# EAGLE library part EXP-AB (library T1200)
Toshiba Proprietary Slot Toshiba Expansion Bus Connector (A side/B side) 60 pins / 1.27 mm pin spacing
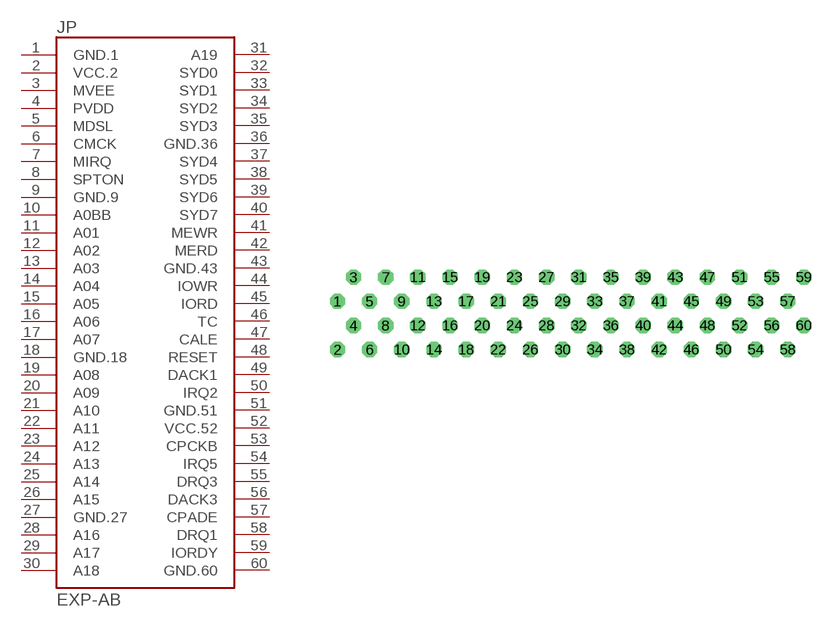
[diagram p2: symbol with the pads of CONN60; footprint CONN60]

Designator prefix JP

## EXP-AB  [CONN60]
1  GND.1
2  VCC.2
3  MVEE
4  PVDD
5  MDSL
6  CMCK
7  MIRQ
8  SPTON
9  GND.9
10  A0BB
11  A01
12  A02
13  A03
14  A04
15  A05
16  A06
17  A07
18  GND.18
19  A08
20  A09
21  A10
22  A11
23  A12
24  A13
25  A14
26  A15
27  GND.27
28  A16
29  A17
30  A18
31  A19
32  SYD0
33  SYD1
34  SYD2
35  SYD3
36  GND.36
37  SYD4
38  SYD5
39  SYD6
40  SYD7
41  MEWR
42  MERD
43  GND.43
44  IOWR
45  IORD
46  TC
47  CALE
48  RESET
49  DACK1
50  IRQ2
51  GND.51
52  VCC.52
53  CPCKB
54  IRQ5
55  DRQ3
56  DACK3
57  CPADE
58  DRQ1
59  IORDY
60  GND.60

## Footprint CONN60 (pad centres in mm)
drill 0.7 octagon: 1 -18.415,0.953; 2 -18.415,-2.857; 3 -17.145,2.857; 4 -17.145,-0.953; 5 -15.875,0.953; 6 -15.875,-2.857; 7 -14.605,2.857; 8 -14.605,-0.953; 9 -13.335,0.953; 10 -13.335,-2.857; 11 -12.065,2.857; 12 -12.065,-0.953; 13 -10.795,0.953; 14 -10.795,-2.857; 15 -9.525,2.857; 16 -9.525,-0.953; 17 -8.255,0.953; 18 -8.255,-2.857; 19 -6.985,2.857; 20 -6.985,-0.953; 21 -5.715,0.953; 22 -5.715,-2.857; 23 -4.445,2.857; 24 -4.445,-0.953; 25 -3.175,0.953; 26 -3.175,-2.857; 27 -1.905,2.857; 28 -1.905,-0.953; 29 -0.635,0.953; 30 -0.635,-2.857; 31 0.635,2.857; 32 0.635,-0.953; 33 1.905,0.953; 34 1.905,-2.857; 35 3.175,2.857; 36 3.175,-0.953; 37 4.445,0.953; 38 4.445,-2.857; 39 5.715,2.857; 40 5.715,-0.953; 41 6.985,0.953; 42 6.985,-2.857; 43 8.255,2.857; 44 8.255,-0.953; 45 9.525,0.953; 46 9.525,-2.857; 47 10.795,2.857; 48 10.795,-0.953; 49 12.065,0.953; 50 12.065,-2.857; 51 13.335,2.857; 52 13.335,-0.953; 53 14.605,0.953; 54 14.605,-2.857; 55 15.875,2.857; 56 15.875,-0.953; 57 17.145,0.953; 58 17.145,-2.857; 59 18.415,2.857; 60 18.415,-0.953